# Altium schematic symbol library ADA4817.SchLib: 1 symbol
Pins are listed as number, name and electrical type; pins without a type are passive.

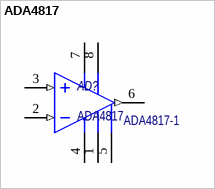
[diagram p0: symbol ADA4817]

## ADA4817
designator AD?
The ADA4817 amplifiers are unity-gain stable, ultrahigh speed, voltage feedback amplifiers with FET inputs.; Назначение: Low Noise, 1 GHz; Потребление, Вт: 0.19; ComponentLink1Description: Datasheet; ComponentLink1URL: https://static.chipdip.ru/lib/705/DOC011705112.pdf; Datasheet: https://static.chipdip.ru/lib/705/DOC011705112.pdf; Наименование: ADA4817
footprint SOIC-8
footprint HO2.8-1B+SOIC-8_INV
pins: 1 FB (power), 2 IN- (in), 3 IN+ (in), 4 Vs- (power), 5 NIC (power), 6 OUT (out), 7 Vs+ (power), 8 PD (power)
text: ADA4817-1